# EAGLE library part PAM2306 (library openblw)
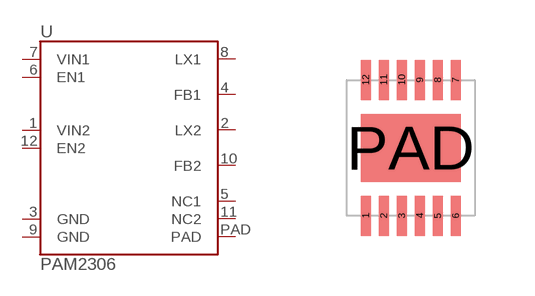
[diagram p2: symbol with the pads of WDFN3X3-12L; footprint WDFN3X3-12L]

Designator prefix -

## PAM2306  [WDFN3X3-12L]
1  VIN2
2  LX2
3  GND
4  FB1
5  NC1
6  EN1
7  VIN1
8  LX1
9  GND
10  FB2
11  NC2
12  EN2
PAD  PAD

## Footprint WDFN3X3-12L (pad centres in mm)
WDFN-6 6-SON Exposed Pad (2x2)
smd 0.25 x 1: 1 -1.125,-1.7; 2 -0.675,-1.7; 3 -0.225,-1.7; 4 0.225,-1.7; 5 0.675,-1.7; 6 1.125,-1.7; 7 1.125,1.7; 8 0.675,1.7; 9 0.225,1.7; 10 -0.225,1.7; 11 -0.675,1.7; 12 -1.125,1.7
smd 2.5 x 1.7: PAD 0,0